# Altium footprint library SMACONNECTOR18MM.PcbLib: 1 footprints
Each footprint in its own frame and in the unit in brackets; x right, y up, seen from the top. Pads: shape width x height; smd on the part's side, far side on the other; paste and mask are expansions set on the pad; w line width, h text height; cw(c..) or ccw(c..) is an arc to the next point about the centre after c.
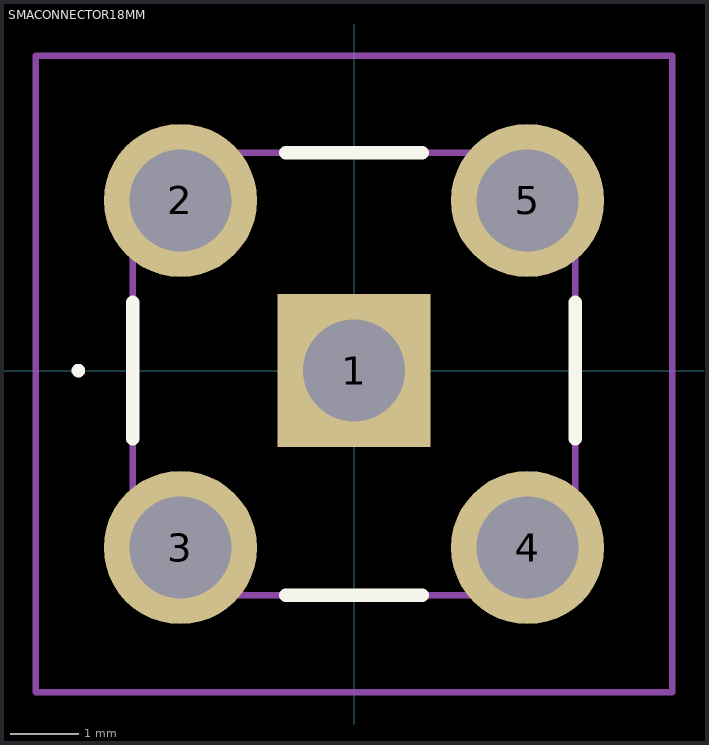
[diagram p0: the footprint, top view; thin cyan lines are the x and y axes]

## SMACONNECTOR18MM [mm]
pads (5):
  rect 2.25x2.25 hole 1.5: 1(0,0)
  round 2.25 hole 1.5: 2(-2.55,2.5) 3(-2.55,-2.6) 4(2.55,-2.6) 5(2.55,2.5)
Top Overlay:
  lines w0.1: -4.1,0 -4.1,0 ; -4.1,0 ccw(c-4.05,0) -4,0 ; -4.1,0 cw(c-4.05,0) -4,0 ; -4,0 -4,0
  lines w0.2: -3.25,-1 -3.25,1 ; -1,-3.3 1,-3.3 ; -1,3.2 1,3.2 ; 3.25,-1 3.25,1
Mechanical 15:
  lines w0.1: -3.25,-3.3 3.25,-3.3 3.25,3.2 -3.25,3.2 -3.25,-3.3
Mechanical 20:
  lines w0.1: -4.675,-4.725 4.675,-4.725 4.675,4.625 -4.675,4.625 -4.675,-4.725